# Altium schematic symbol library Conn_Wurth_Electronics_629105150521_eec.SchLib: 1 symbol
Pins are listed as number, name and electrical type; pins without a type are passive.

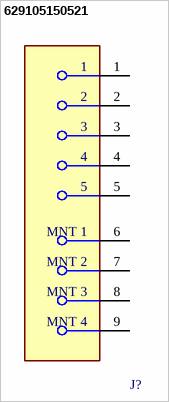
[diagram p0: symbol 629105150521]

## 629105150521
designator J?, comment uUSB CONN  (value not drawn)
USB Connectors WR-COM USB Micro SMT Type B Horiztl; Manufacturer 1: Wurth; Manufacturer Part Number 1: 629105150521
footprint Wurth_Electronics_629105150521_MFG
pins: 1, 2, 3, 4, 5, 6 MNT 1, 7 MNT 2, 8 MNT 3, 9 MNT 4